# Altium footprint library 基本元件.PcbLib: 39 footprints (part 3 of 3)
Each footprint in its own frame and in the unit in brackets; x right, y up, seen from the top. Pads: shape width x height; smd on the part's side, far side on the other; paste and mask are expansions set on the pad; w line width, h text height; cw(c..) or ccw(c..) is an arc to the next point about the centre after c.
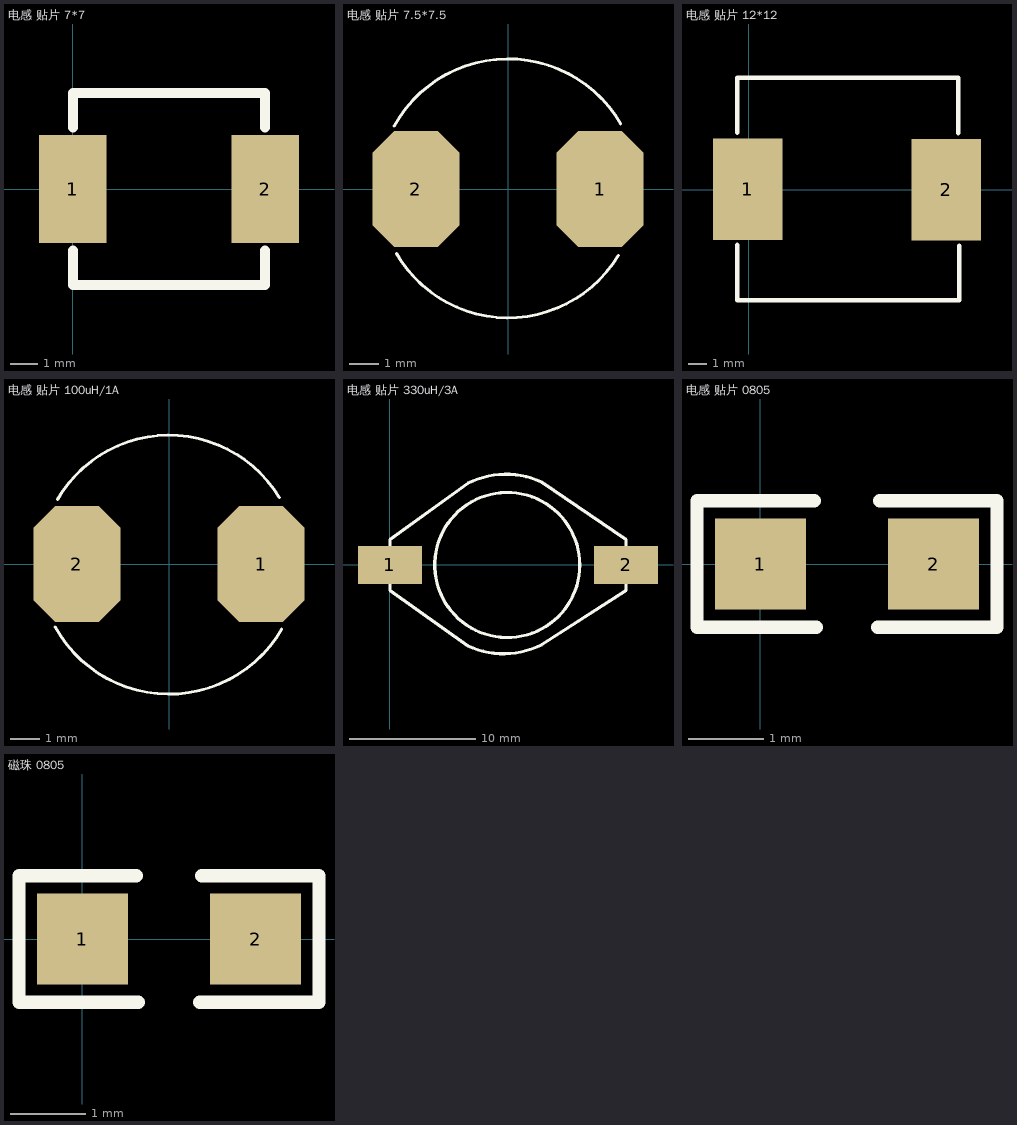
[diagram p2: the footprints below, top view; thin cyan lines are the x and y axes]

## 电感 贴片 7*7 [mm]
pads (2):
  rect 2.5x4 smd: 1(0,0) 2(7.112,0)
Top Overlay:
  lines w0.178: 0,-3.556 7.112,-3.556 ; 0,3.556 7.112,3.556
  lines w0.381: 0,-2.286 0,-3.556 7.112,-3.556 7.112,-2.286 ; 0,2.286 0,3.556 7.112,3.556 7.112,2.286

## 电感 贴片 7.5*7.5 [mm]
pads (2):
  oct 3x4 smd: 1(3.175,0) 2(-3.175,0)
Top Overlay:
  lines w0.102: -3.927,2.177 cw(c0,0) 3.889,2.245 ; -3.848,-2.222 ccw(c0,0) 3.809,-2.288

## 电感 贴片 12*12 [mil]
pads (2):
  rect 150x220 smd: 1(-2,1) 2(429,0)
Top Overlay:
  lines w10: -25,-120 -25,-240 457,-240 457,-122 ; -25,124 -25,243 455,243 455,123

## 电感 贴片 100uH/1A [mm]
pads (2):
  oct 3x4 smd: 1(3.175,0) 2(-3.175,0)
Top Overlay:
  lines w0.102: -3.927,-2.177 ccw(c0,0) 3.889,-2.245 ; -3.848,2.222 cw(c0,0) 3.809,2.288

## 电感 贴片 330uH/3A [mil]
pads (2):
  rect 200x120 smd: 1(0,0) 2(740,0)
Top Overlay:
  circle w10: c367.73,0 r227.27
  lines w7: 244.73,-253.74 0,-80 0,80 244.73,256.26 ; 475,-250 740,-80 740,80 475,260
  lines w10: 0,-80 244.73,-253.74 ccw(c355.96,-11.92) 475,-250 740,-80 740,80 475,260 ccw(c363.76,18.18) 244.73,256.26 0,80 0,-80

## 电感 贴片 0805 [mm]
height 1.75
pads (2):
  rect 1.2x1.2 smd: 1(0,0) 2(2.286,0)
Top Overlay:
  lines w0.178: 0.711,0.838 -0.838,0.838 -0.838,-0.838 0.737,-0.838 ; 1.549,-0.838 3.124,-0.838 3.124,0.838 1.575,0.838
3D body "0805W8F1004T5E.stp": height 0.65, standoff 0, extent 0.143,-0.637 2.143,0.638

## 磁珠 0805 [mm]
height 1.75
pads (2):
  rect 1.2x1.2 smd: 1(0,0) 2(2.286,0)
Top Overlay:
  lines w0.178: 0.711,0.838 -0.838,0.838 -0.838,-0.838 0.737,-0.838 ; 1.549,-0.838 3.124,-0.838 3.124,0.838 1.575,0.838
3D body "0805W8F1004T5E.stp": height 0.65, standoff 0, extent 0.143,-0.637 2.143,0.638